# Altium schematic symbol library buttons.SchLib: 9 symbols
Pins are listed as number, name and electrical type; pins without a type are passive.

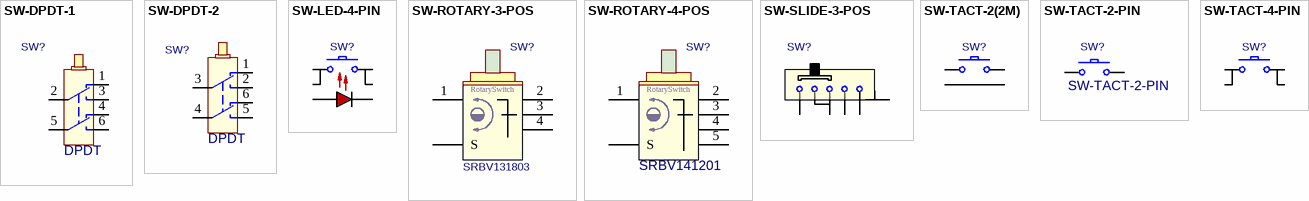
[diagram p0: symbols SW-DPDT-1 to SW-TACT-4-PIN]

## SW-DPDT-1
designator SW?, comment DPDT
Value: DPDT
footprint KFC707075 (DPDT Latching Square Plunger Through Hole DIP-6P,7x7mm Pushbutton Switches)
pins: 1, 2, 3, 4, 5, 6

## SW-DPDT-2
designator SW?, comment DPDT
Value: DPDT
footprint KFC8080 (DPDT Latching Square Plunger Through Hole DIP-6P,8x8mm Pushbutton Switches)
pins: 1, 2, 3, 4, 5, 6

## SW-LED-4-PIN
designator SW?, comment SW-TACT-4-PIN  (value not drawn)
Value: SW-TACT-4PIN
footprint B3W-9-RED (Illuminated Tactile Switches)
pins: 1, 2, 3, 4, 5 A, 6 K

## SW-ROTARY-3-POS
designator SW?, comment value SRBV131803  (hidden comment: SRBV)
footprint SRBV (Rotary Switches)
pins: 1, 2, 3, 4, MH S
text: RotarySwitch

## SW-ROTARY-4-POS
designator SW?, comment SRBV141201
Value: SRBV141201
footprint SRBV (Rotary Switches)
pins: 1, 2, 3, 4, 5, MH S
text: RotarySwitch

## SW-SLIDE-3-POS
designator SW?  (value not drawn)
Value: SW-SLIDE-3-POS
footprint SS-13D07 (Slider switch 12.8x4.5mm)
pins: 1, 2, 3, 4, SHIELD SHLD

## SW-TACT-2(2M)
designator SW?, comment SW-TACT-4-PIN  (value not drawn)
Value: SW-TACT-4PIN
footprint GT-TC018X-HXXX-L (SMD, Right Angle With Bracket SMD,4.7x1.9mm)
pins: 1, 2, 3, 4

## SW-TACT-2-PIN
designator SW?
Microswitches, DTSMB-3 series; Value: SW tact 2-pin
footprint TACTM-34N-F
pins: 1, 2

## SW-TACT-4-PIN
designator SW?  (value not drawn)
Value: SW-TACT-4PIN
footprint ADTSM2xxV
footprint ADTS2xxV
footprint ADTS6xxV
footprint ADTSM6xxV
footprint KLS7-TS6611-1.5
pins: 1, 2, 3, 4